# Altium schematic symbol library BD48K33G-TL.SchLib: 1 symbol
Pins are listed as number, name and electrical type; pins without a type are passive.

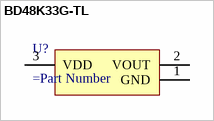
[diagram p0: symbol BD48K33G-TL]

## BD48K33G-TL
designator U?
=Description
pins: 1 GND (power), 2 VOUT (power), 3 VDD (power)